# Altium footprint library 24QFN.PcbLib: 2 footprints
Each footprint in its own frame and in the unit in brackets; x right, y up, seen from the top. Pads: shape width x height; smd on the part's side, far side on the other; paste and mask are expansions set on the pad; w line width, h text height; cw(c..) or ccw(c..) is an arc to the next point about the centre after c.
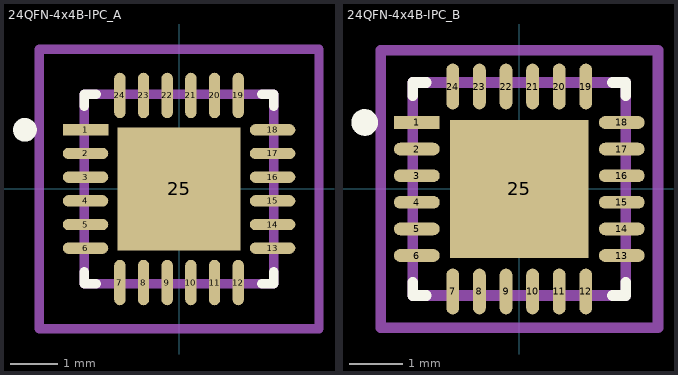
[diagram p0: the footprints below, top view; thin cyan lines are the x and y axes]

## 24QFN-4x4B-IPC_A [mm]
pads (25):
  rect 0.961x0.239 smd paste+0 mask+0: 1(-1.976,1.25)
  rrect100% 0.961x0.239 smd paste+0 mask+0: 2(-1.976,0.75) 3(-1.976,0.25) 4(-1.976,-0.25) 5(-1.976,-0.75) 6(-1.976,-1.25) 13(1.976,-1.25) 14(1.976,-0.75) 15(1.976,-0.25) 16(1.976,0.25) 17(1.976,0.75) 18(1.976,1.25)
  rrect100% 0.239x0.961 smd paste+0 mask+0: 7(-1.25,-1.976) 8(-0.75,-1.976) 9(-0.25,-1.976) 10(0.25,-1.976) 11(0.75,-1.976) 12(1.25,-1.976) 19(1.25,1.976) 20(0.75,1.976) 21(0.25,1.976) 22(-0.25,1.976) 23(-0.75,1.976) 24(-1.25,1.976)
  rect 2.6x2.6 smd paste-1000 mask+0: 25(0,0)
Top Overlay:
  circle w0.25: c-3.256,1.25 r0.125
  lines w0.2: -2,-1.75 -2,-2 -1.75,-2 ; -2,1.75 -2,2 -1.75,2 ; 1.75,-2 2,-2 2,-1.75 ; 1.75,2 2,2 2,1.75
Top Paste:
  rectangle: -0.822,-0.822 0.822,0.822
Top Assembly:
  lines w0.2: -2.956,-2.956 -2.956,2.956 2.956,2.956 2.956,-2.956 -2.956,-2.956
  text ".Designator" at 0,0.188 h1
Top 3D Body:
  lines w0.2: -2,-2 -2,2 2,2 2,-2 -2,-2
Top Courtyard:
  lines w0.2: -2.956,-2.956 -2.956,2.956 2.956,2.956 2.956,-2.956 -2.956,-2.956
Top Component Center:
  lines w0.1: -0.5,0 0.5,0 -0.5,0 ; 0,-0.5 0,0.5 0,-0.5
3D body "IC_Microchip_LAN8720AI-CP-ABC_eec.STEP": height 0.25, standoff 0, extent -2.956,-2.956 2.956,2.956

## 24QFN-4x4B-IPC_B [mm]
pads (25):
  rect 0.861x0.239 smd paste+0 mask+0: 1(-1.926,1.25)
  rrect100% 0.861x0.239 smd paste+0 mask+0: 2(-1.926,0.75) 3(-1.926,0.25) 4(-1.926,-0.25) 5(-1.926,-0.75) 6(-1.926,-1.25) 13(1.926,-1.25) 14(1.926,-0.75) 15(1.926,-0.25) 16(1.926,0.25) 17(1.926,0.75) 18(1.926,1.25)
  rrect100% 0.239x0.861 smd paste+0 mask+0: 7(-1.25,-1.926) 8(-0.75,-1.926) 9(-0.25,-1.926) 10(0.25,-1.926) 11(0.75,-1.926) 12(1.25,-1.926) 19(1.25,1.926) 20(0.75,1.926) 21(0.25,1.926) 22(-0.25,1.926) 23(-0.75,1.926) 24(-1.25,1.926)
  rect 2.6x2.6 smd paste-1000 mask+0: 25(0,0)
Top Overlay:
  circle w0.25: c-2.906,1.25 r0.125
  lines w0.2: -2,-1.75 -2,-2 -1.75,-2 ; -2,1.75 -2,2 -1.75,2 ; 1.75,-2 2,-2 2,-1.75 ; 1.75,2 2,2 2,1.75
Top Paste:
  rectangle: -0.822,-0.822 0.822,0.822
Top Assembly:
  lines w0.2: -2.606,-2.606 2.606,-2.606 2.606,2.606 -2.606,2.606 -2.606,-2.606
  text ".Designator" at 0,0.188 h1
Top 3D Body:
  lines w0.2: -2,-2 2,-2 2,2 -2,2 -2,-2
Top Courtyard:
  lines w0.2: -2.606,-2.606 2.606,-2.606 2.606,2.606 -2.606,2.606 -2.606,-2.606
Top Component Center:
  lines w0.1: -0.5,0 0.5,0 -0.5,0 ; 0,-0.5 0,0.5 0,-0.5
3D body "IC_Microchip_LAN8720AI-CP-ABC_eec.STEP": height 0.25, standoff 0, extent -2.606,-2.606 2.606,2.606